# Altium footprint library m_library.PcbLib: 29 footprints (part 2 of 2)
Each footprint in its own frame and in the unit in brackets; x right, y up, seen from the top. Pads: shape width x height; smd on the part's side, far side on the other; paste and mask are expansions set on the pad; w line width, h text height; cw(c..) or ccw(c..) is an arc to the next point about the centre after c.
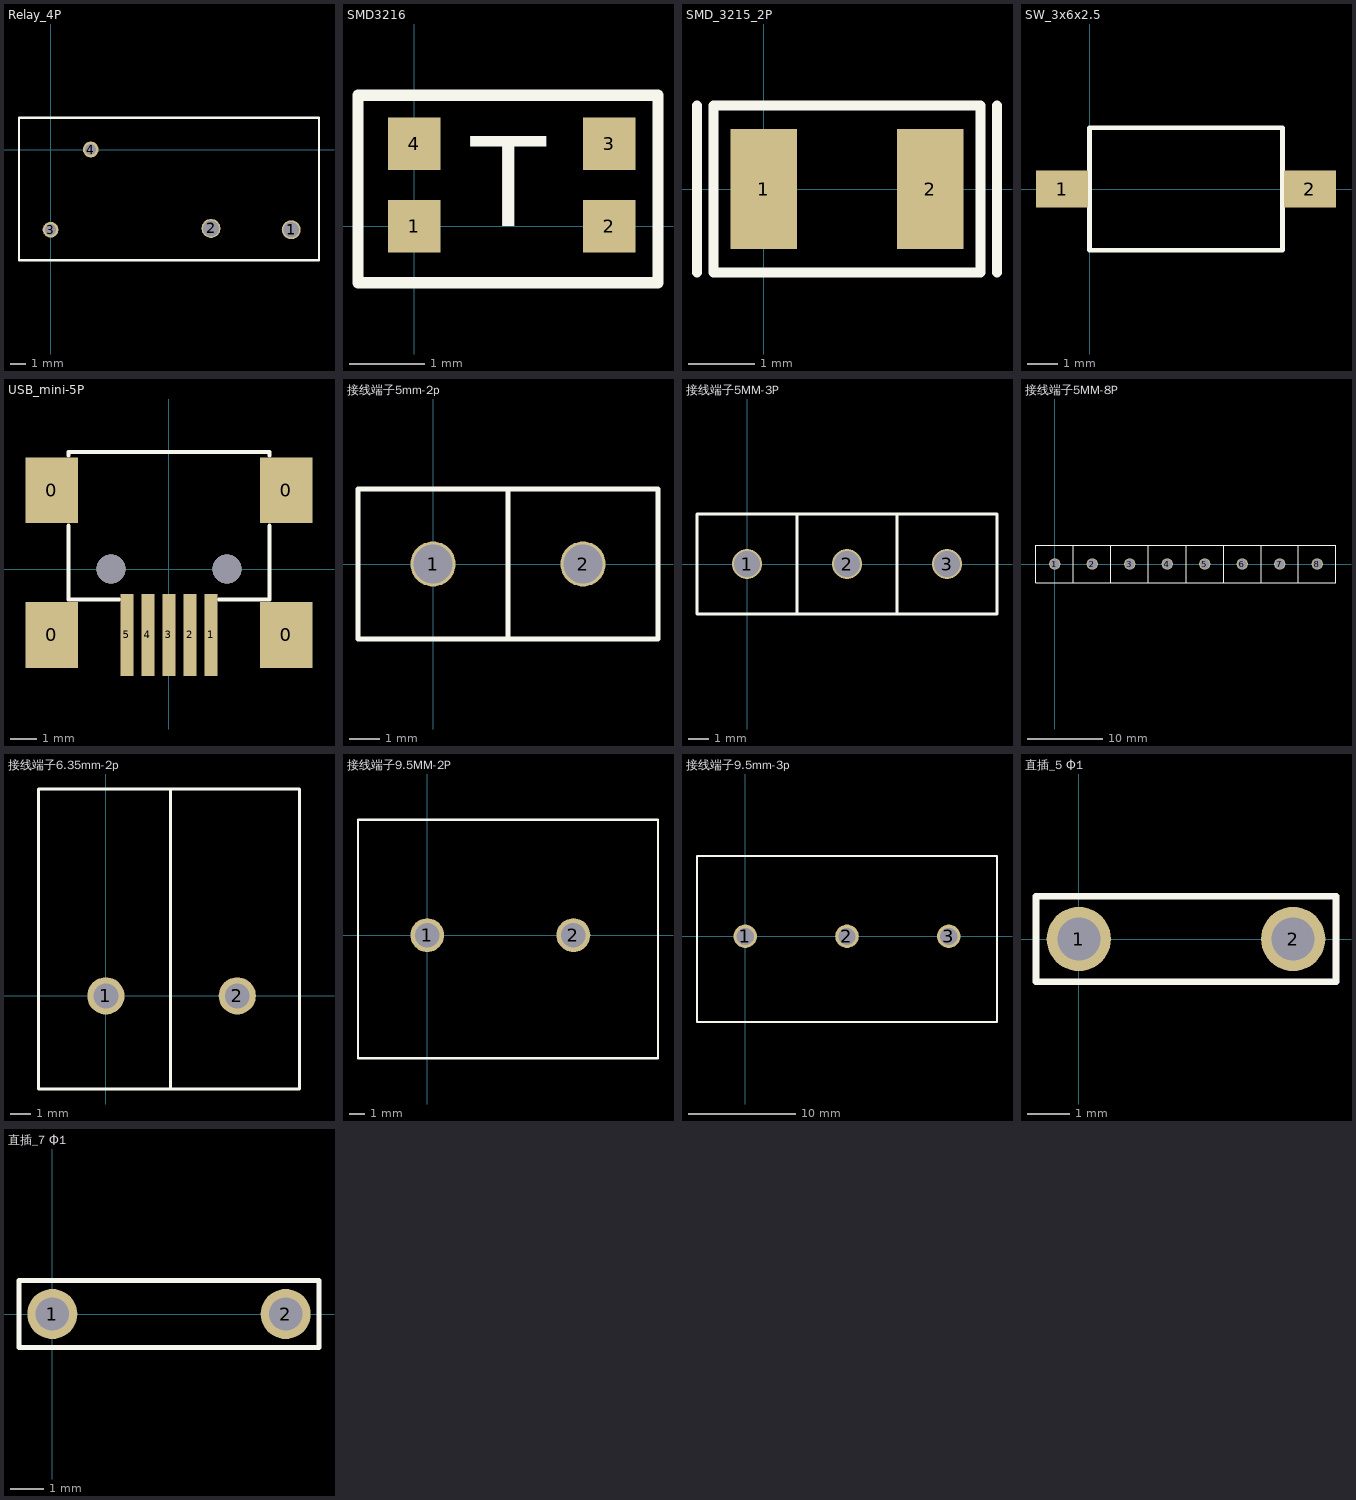
[diagram p1: the footprints below, top view; thin cyan lines are the x and y axes]

## Relay_4P [mm]
height 12.5
pads (4):
  round 1.2 hole 1: 1(15.24,-5.08) 2(10.16,-5)
  round 1 hole 0.7: 3(0,-5.08) 4(2.54,0)
Top Overlay:
  lines w0.152: -2,-7 17,-7 17,2 -2,2 -2,-7

## SMD3216 [mm]
pads (4):
  rect 0.7x0.7 smd: 1(0,0) 2(2.6,0) 3(2.6,1.1) 4(0,1.1)
Top Overlay:
  lines w0.152: -0.75,-0.75 -0.75,-0.5 -0.75,1.75 3.25,1.75 3.25,-0.75 -0.75,-0.75
  text "T" at 0.75,0 h1.2

## SMD_3215_2P [mm]
pads (2):
  rect 1x1.8 smd: 1(0,0) 2(2.5,0)
Top Overlay:
  lines w0.152: -1,-1.25 -1,1.25 ; 3.5,-1.25 3.5,1.25 ; -0.75,-1.25 -0.75,1.25 3.25,1.25 3.25,-1.25 -0.75,-1.25

## SW_3x6x2.5 [mm]
height 2.5
pads (2):
  rect 1.7x1.2 smd: 1(-0.9,0) 2(7.2,0)
Top Overlay:
  lines w0.152: 0,-2 6.3,-2 6.3,2 0,2 0,-2

## USB_mini-5P [mm]
pads (9):
  rect 2x2.5 smd: 0(-4.45,-2.5) 0(-4.45,3) 0(4.45,-2.5) 0(4.45,3)
  rect 0.5x3.1 smd: 1(1.6,-2.5) 2(0.8,-2.5) 3(0,-2.5) 4(-0.8,-2.5) 5(-1.6,-2.5)
via -2.2,0 diameter 1.1 hole 1.1
via 2.2,0 diameter 1.1 hole 1.1
Top Overlay:
  lines w0.152: -3.81,1.651 -3.81,-1.143 -1.905,-1.143 ; -3.81,4.318 -3.81,4.445 3.81,4.445 3.81,4.318 ; 1.905,-1.143 3.81,-1.143 3.81,1.651

## 接线端子5mm-2p [mm]
height 10
pads (2):
  round 1.5 hole 1.3: 1(0,0) 2(5,0)
Top Overlay:
  lines w0.152: 2.5,-2.5 2.5,2.5 ; -2.5,-2.5 -2.5,2.5 7.5,2.5 7.5,-2.5 -2.5,-2.5

## 接线端子5MM-3P [mm]
height 10
pads (3):
  round 1.5 hole 1.3: 1(0,0) 2(5,0) 3(10,0)
Top Overlay:
  lines w0.152: 2.5,-2.5 2.5,2.5 7.5,2.5 7.5,-2.5 ; -2.5,-2.5 -2.5,2.5 12.5,2.5 12.5,-2.5 -2.5,-2.5

## 接线端子5MM-8P [mm]
pads (8):
  round 1.5 hole 1.3: 1(0,0) 2(5,0) 3(10,0) 4(15,0) 5(20,0) 6(25,0) 7(30,0) 8(35,0)
Top Overlay:
  lines w0.152: 2.5,-2.5 2.5,2.5 ; 7.5,-2.5 7.5,2.5 ; 12.5,-2.5 12.5,2.5 ; 17.5,-2.5 17.5,2.5 ; 22.5,-2.5 22.5,2.5 ; 27.5,-2.5 27.5,2.5 ; 32.5,-2.5 32.5,2.5 ; -2.5,-2.5 37.5,-2.5 37.5,2.5 -2.5,2.5 -2.5,-2.5

## 接线端子6.35mm-2p [mm]
height 13
pads (2):
  round 1.8 hole 1.2: 1(0,0) 2(6.35,0)
Top Overlay:
  lines w0.152: 3.125,-4.5 3.125,10 ; -3.25,-4.5 9.35,-4.5 9.35,10 -3.25,10 -3.25,-4.5

## 接线端子9.5MM-2P [mm]
pads (2):
  round 2.2 hole 1.6: 1(0,0) 2(9.5,0)
Top Overlay:
  lines w0.152: -4.5,-8 15,-8 15,7.5 -4.5,7.5 -4.5,-8

## 接线端子9.5mm-3p [mm]
height 13
pads (3):
  round 2.2 hole 1.6: 1(0,0) 2(9.5,0) 3(19,0)
Top Overlay:
  lines w0.152: -4.5,-8 -4.5,7.5 23.5,7.5 23.5,-8 -4.5,-8

## 直插_5 Φ1 [mm]
pads (2):
  round 1.5 hole 1: 1(0,0) 2(5,0)
Top Overlay:
  lines w0.152: -1,-1 -1,1 6,1 6,-1 -1,-1

## 直插_7 Φ1 [mm]
pads (2):
  round 1.5 hole 1: 1(0,0) 2(7,0)
Top Overlay:
  lines w0.152: -1,-1 8,-1 8,1 -1,1 -1,-1